# EAGLE library part 74*240? (library 74xx)
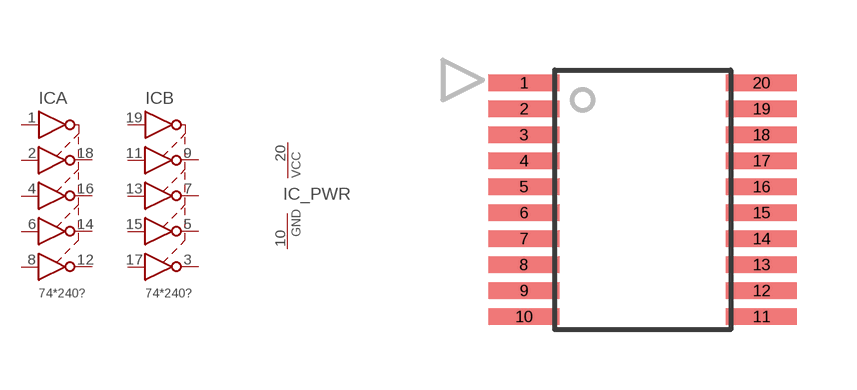
[diagram p5: symbol with the pads of TSSOP-20; footprint TSSOP-20]

Designator prefix IC; gates A=74X240 B=74X240 _PWR=PWRN

## 74ABT240APW (MARK: AB240A; MF: Texas Instruments; MPN: SN74ABT240APW)  [TSSOP-20]
1  A:!OE  in
2  A:A1  in
3  B:Y4
4  A:A2  in
5  B:Y3
6  A:A3  in
7  B:Y2
8  A:A4  in
9  B:Y1
10  _PWR:GND  pwr
11  B:A1  in
12  A:Y4
13  B:A2  in
14  A:Y3
15  B:A3  in
16  A:Y2
17  B:A4  in
18  A:Y1
19  B:!OE  in
20  _PWR:VCC  pwr

## Footprint TSSOP-20 (pad centres in mm)
smd 1.78 x 0.42: 1 -2.97,2.925; 2 -2.97,2.275; 3 -2.97,1.625; 4 -2.97,0.975; 5 -2.97,0.325; 6 -2.97,-0.325; 7 -2.97,-0.975; 8 -2.97,-1.625; 9 -2.97,-2.275; 10 -2.97,-2.925; 11 2.97,-2.925; 12 2.97,-2.275; 13 2.97,-1.625; 14 2.97,-0.975; 15 2.97,-0.325; 16 2.97,0.325; 17 2.97,0.975; 18 2.97,1.625; 19 2.97,2.275; 20 2.97,2.925